# EAGLE library part ACT512_SPDT (library Philips_Relay)
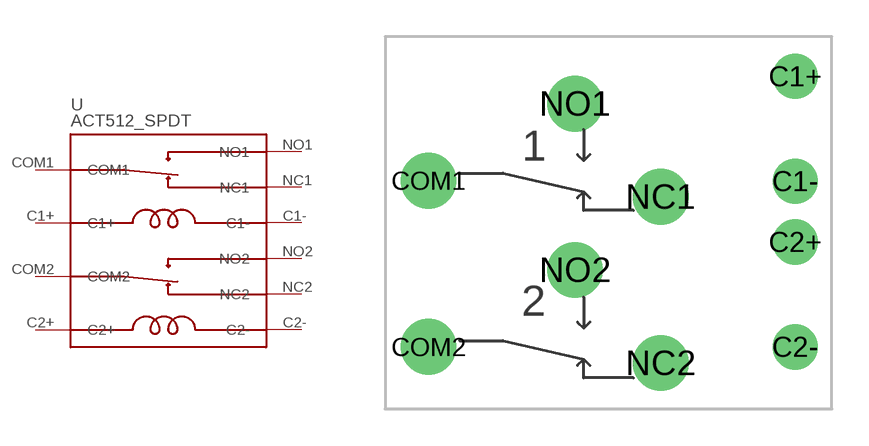
[diagram p0: symbol with the pads of SPDT_DUAL; footprint SPDT_DUAL]

Designator prefix -

## ACT512_SPDT  [SPDT_DUAL]
C1+  C1+
C1-  C1-
C2+  C2+
C2-  C2-
COM1  COM1
COM2  COM2
NC1  NC1
NC2  NC2
NO1  NO1
NO2  NO2

## Footprint SPDT_DUAL (pad centres in mm)
drill 1.092 pad 1.854 round: C1+ 15.011,11.074; C1- 15.011,6.782; C2+ 15.011,4.293; C2- 15.011,0
drill 1.397 pad 2.286 round: COM1 0,6.807; COM2 0,0; NC1 9.5,6.147; NC2 9.5,-0.66; NO1 5.994,9.957; NO2 5.994,3.15